# EAGLE library part SI8234/R (library SiLabs)
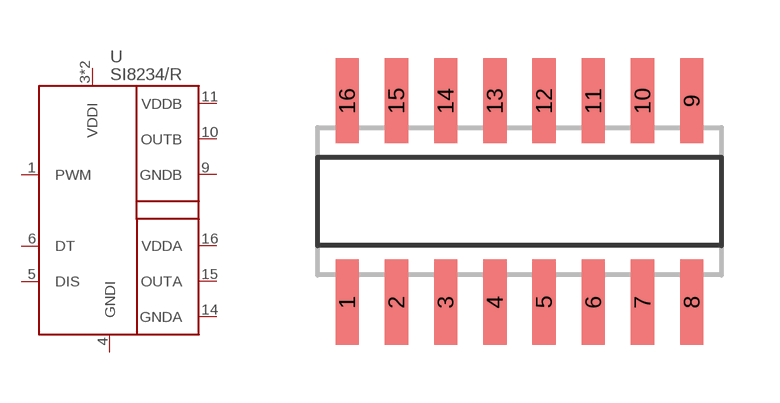
[diagram p4: symbol with the pads of SO16; footprint SO16]

Designator prefix U

## SI8234/R (DIGIKEY: 336-1901-5-ND; P1I: o)  [SO16]
1  PWM
3  VDDI
4  GNDI
5  DIS
6  DT
8  VDDI
9  GNDB
10  OUTB
11  VDDB
14  GNDA
15  OUTA
16  VDDA

## Footprint SO16 (pad centres in mm)
SMALL OUTLINE INTEGRATED CIRCUIT body 3.9 mm/JEDEC MS-012AC
smd 0.6 x 2.2: 1 -4.445,-2.6; 2 -3.175,-2.6; 3 -1.905,-2.6; 4 -0.635,-2.6; 5 0.635,-2.6; 6 1.905,-2.6; 7 3.175,-2.6; 8 4.445,-2.6; 9 4.445,2.6; 10 3.175,2.6; 11 1.905,2.6; 12 0.635,2.6; 13 -0.635,2.6; 14 -1.905,2.6; 15 -3.175,2.6; 16 -4.445,2.6